# Altium footprint library Resistor.PcbLib: 7 footprints
Each footprint in its own frame and in the unit in brackets; x right, y up, seen from the top. Pads: shape width x height; smd on the part's side, far side on the other; paste and mask are expansions set on the pad; w line width, h text height; cw(c..) or ccw(c..) is an arc to the next point about the centre after c.
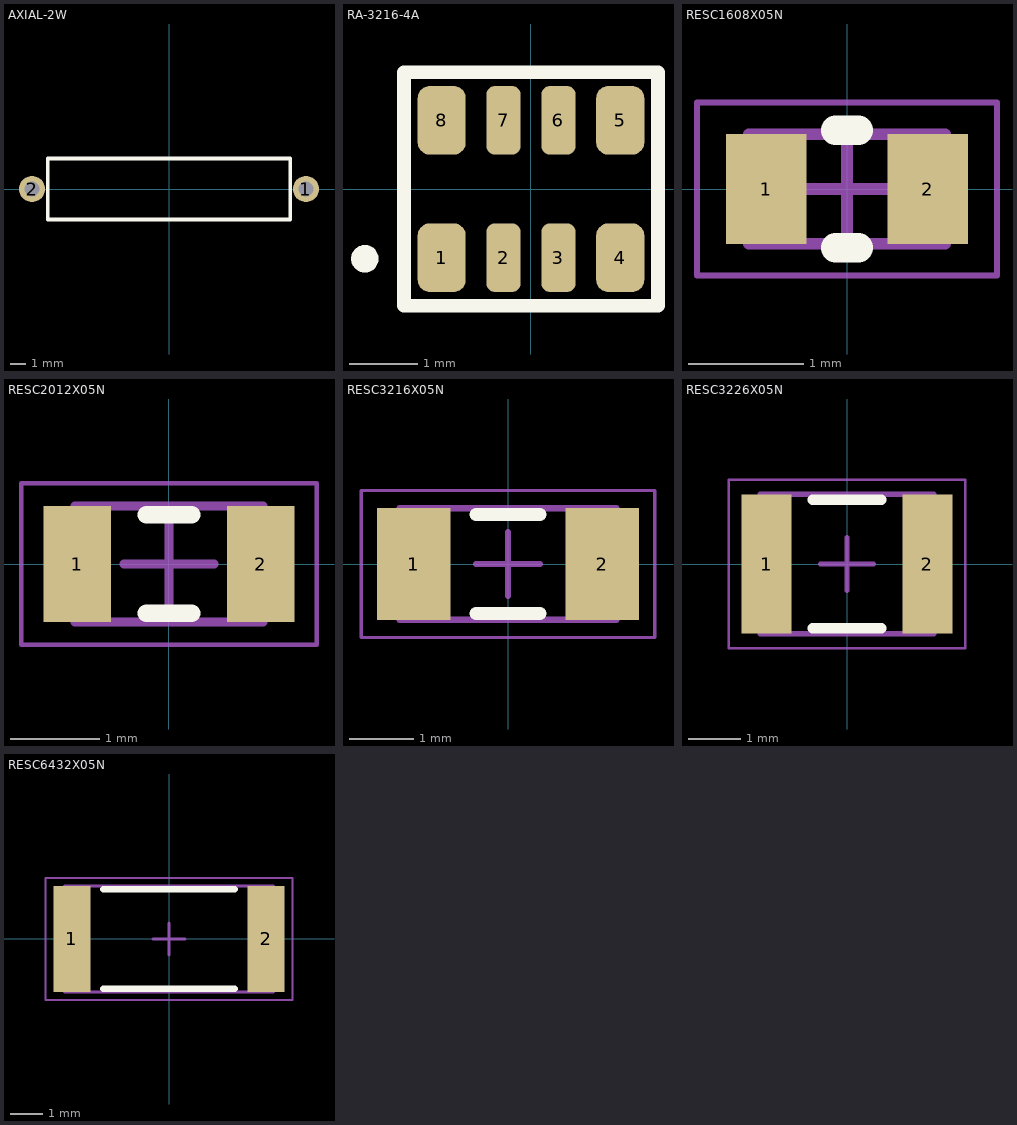
[diagram p0: the footprints below, top view; thin cyan lines are the x and y axes]

## AXIAL-2W [mm]
pads (2):
  round 1.724 hole 1: 1(9.03,0) 2(-9.03,0)
Top Overlay:
  lines w0.254: -8,-2 8,-2 8,2 -8,2 -8,-2
3D body "Resistor_15R_2W.STEP": height 4.72, standoff -2.67, extent -9.293,-2.39 9.193,2.39

## RA-3216-4A [mm] "MNR14(1608X4)"
height 0.5
pads (8):
  rrect50% 0.7x1 smd: 1(-1.3,-1) 4(1.3,-1) 5(1.3,1) 8(-1.3,1)
  rrect50% 0.5x1 smd: 2(-0.4,-1) 3(0.4,-1) 6(0.4,1) 7(-0.4,1)
Top Overlay:
  circle w0.2: c-2.419,-1.016 r0.1
  lines w0.2: -1.85,-1.702 1.85,-1.702 1.85,1.702 -1.85,1.702 -1.85,-1.702
3D body "RA-3216-4A-Yale.STEP": height 0.49, standoff -0.02, extent -1.6,-0.8 1.6,0.8

## RESC1608X05N [mm] "Chip Resistor, 2-Leads, Body 1.60x0.75mm, IPC Medium Density"
height 0.45
pads (2):
  rect 0.7x0.95 smd: 1(-0.7,0) 2(0.7,0)
Top Overlay:
  lines w0.254: -0.1,-0.508 0.1,-0.508 ; -0.1,0.508 0.1,0.508
Mechanical 13:
  lines w0.1: -0.85,-0.475 -0.85,0.475 0.85,0.475 0.85,-0.475 -0.85,-0.475
Mechanical 15:
  lines w0.05: -1.3,-0.75 -1.3,0.75 1.3,0.75 1.3,-0.75 -1.3,-0.75
  lines w0.1: -0.475,0 0.475,0 ; 0,-0.475 0,0.475
3D body "RESC1608X05N.step": height 0.45, standoff 0, extent -0.85,-0.475 0.85,0.475

## RESC2012X05N [mm] "Chip Resistor, 2-Leads, Body 2.00x1.20mm, IPC Medium Density"
height 0.5
pads (2):
  rect 0.75x1.3 smd: 1(-1.025,0) 2(1.025,0)
Top Overlay:
  lines w0.2: -0.25,-0.55 0.25,-0.55 ; -0.25,0.55 0.25,0.55
Mechanical 13:
  lines w0.1: -1.05,-0.65 -1.05,0.65 1.05,0.65 1.05,-0.65 -1.05,-0.65
Mechanical 15:
  lines w0.05: -1.65,-0.9 -1.65,0.9 1.65,0.9 1.65,-0.9 -1.65,-0.9
  lines w0.1: -0.5,0 0.5,0 ; 0,-0.5 0,0.5
3D body "RESC2012X05N.step": height 0.5, standoff 0, extent -1.05,-0.65 1.05,0.65

## RESC3216X05N [mm] "Chip Resistor, 2-Leads, Body 3.20x1.60mm, IPC Medium Density"
height 0.45
pads (2):
  rect 1.15x1.75 smd: 1(-1.475,0) 2(1.475,0)
Top Overlay:
  lines w0.2: -0.5,-0.775 0.5,-0.775 ; -0.5,0.775 0.5,0.775
Mechanical 13:
  lines w0.1: -1.7,-0.875 1.7,-0.875 1.7,0.875 -1.7,0.875 -1.7,-0.875
Mechanical 15:
  lines w0.05: -2.3,-1.15 2.3,-1.15 2.3,1.15 -2.3,1.15 -2.3,-1.15
  lines w0.1: -0.5,0 0.5,0 ; 0,-0.5 0,0.5
3D body "RESC3216X05N.step": height 0.45, standoff 0, extent -1.7,-0.875 1.7,0.875

## RESC3226X05N [mm] "Chip Resistor, 2-Leads, Body 3.20x2.55mm, IPC Medium Density"
height 0.5
pads (2):
  rect 0.95x2.65 smd: 1(-1.525,0) 2(1.525,0)
Top Overlay:
  lines w0.2: -0.65,-1.225 0.65,-1.225 ; -0.65,1.225 0.65,1.225
Mechanical 13:
  lines w0.1: -1.65,-1.325 -1.65,1.325 1.65,1.325 1.65,-1.325 -1.65,-1.325
Mechanical 15:
  lines w0.05: -2.25,-1.6 -2.25,1.6 2.25,1.6 2.25,-1.6 -2.25,-1.6
  lines w0.1: -0.5,0 0.5,0 ; 0,-0.5 0,0.5
3D body "RESC3226X05N.step": height 0.5, standoff 0, extent -1.65,-1.325 1.65,1.325

## RESC6432X05N [mm] "Chip Resistor, 2-Leads, Body 6.40x3.20mm, IPC Medium Density"
height 0.5
pads (2):
  rect 1.15x3.3 smd: 1(-3.025,0) 2(3.025,0)
Top Overlay:
  lines w0.2: -2.05,-1.55 2.05,-1.55 ; -2.05,1.55 2.05,1.55
Mechanical 13:
  lines w0.1: -3.25,-1.65 -3.25,1.65 3.25,1.65 3.25,-1.65 -3.25,-1.65
Mechanical 15:
  lines w0.05: -3.85,-1.9 -3.85,1.9 3.85,1.9 3.85,-1.9 -3.85,-1.9
  lines w0.1: -0.5,0 0.5,0 ; 0,-0.5 0,0.5
3D body "RESC6432X05N.step": height 0.5, standoff 0, extent -3.25,-1.65 3.25,1.65